# Altium schematic symbol library Header_Molex_10-89-7442_44POS.SchLib: 1 symbol
Pins are listed as number, name and electrical type; pins without a type are passive.

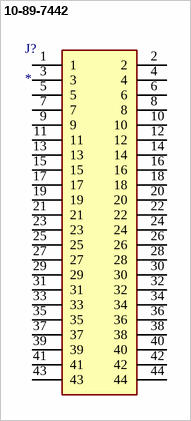
[diagram p0: symbol 10-89-7442]

## 10-89-7442
designator J?
Connector; Manufacturer_Name: Molex; Datasheet Link: https://componentsearchengine.com//10-89-7442.pdf; Height: 8.64mm; Mouser2 Part Number: 538-10-89-7442; Mouser2 Price/Stock: https://www.mouser.com/Search/Refine.aspx?Keyword=538-10-89-7442; Manufacturer_Part_Number: 10-89-7442
footprint HDRV44W87P254_2X22_5601X508X864P
pins: 1, 2, 3, 4, 5, 6, 7, 8, 9, 10, 11, 12, 13, 14, 15, 16, 17, 18, 19, 20, 21, 22, 23, 24, 25, 26, 27, 28, 29, 30, 31, 32, 33, 34, 35, 36, 37, 38, 39, 40, 41, 42, 43, 44